# Altium footprint library Voltage_Regulators.PcbLib: 13 footprints
Each footprint in its own frame and in the unit in brackets; x right, y up, seen from the top. Pads: shape width x height; smd on the part's side, far side on the other; paste and mask are expansions set on the pad; w line width, h text height; cw(c..) or ccw(c..) is an arc to the next point about the centre after c.
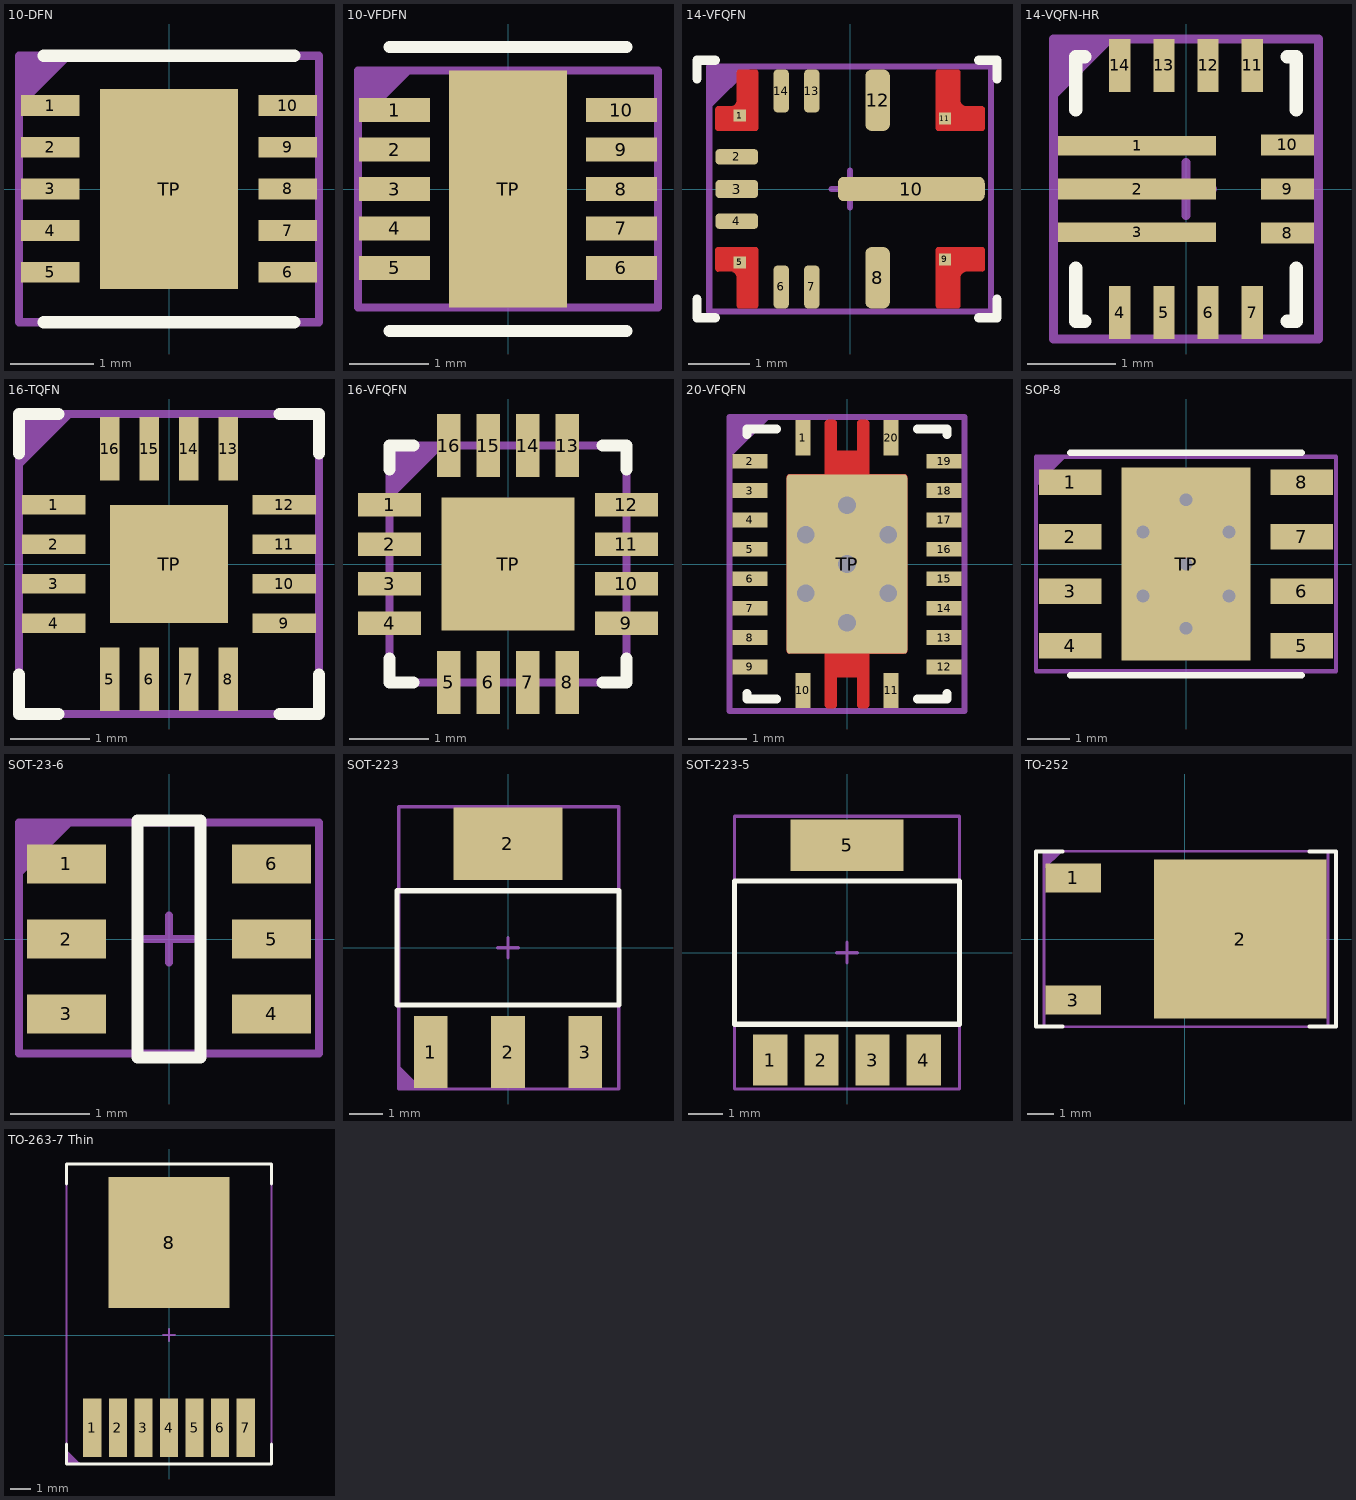
[diagram p0: the footprints below, top view; thin cyan lines are the x and y axes]

## 10-DFN [mm]
pads (11):
  rect 0.7x0.25 smd mask+0.05: 1(-1.425,1) 2(-1.425,0.5) 3(-1.425,0) 4(-1.425,-0.5) 5(-1.425,-1) 6(1.425,-1) 7(1.425,-0.5) 8(1.425,0) 9(1.425,0.5) 10(1.425,1)
  rect 1.65x2.4 smd mask+0.05: TP(0,0)
Top Overlay:
  lines w0.153: -1.5,-1.6 1.5,-1.6 ; -1.5,1.6 1.5,1.6
  text "." at -2.347,0.953 h0.8
Top Assembly:
  region: -1.8,1.6 -1.15,1.6 -1.8,0.95
  lines w0.1: -1.8,-1.6 -1.8,1.6 1.8,1.6 1.8,-1.6 -1.8,-1.6
  text "'.Designator'" at -4.532,-0.333 h0.8
Mechanical 15:
  lines w0.1: -0.3,0 0.3,0 ; 0,-0.3 0,0.3 ; -1.8,-1.6 -1.8,1.6 1.8,1.6 1.8,-1.6 -1.8,-1.6
3D body "DFN10_cdo.step": height 0.8, standoff -0.05, extent -1.56,-1.55 1.56,1.55

## 10-VFDFN [mm]
pads (11):
  rect 0.9x0.3 smd mask+0.05: 1(-1.435,1) 2(-1.435,0.5) 3(-1.435,0) 4(-1.435,-0.5) 5(-1.435,-1) 6(1.435,-1) 7(1.435,-0.5) 8(1.435,0) 9(1.435,0.5) 10(1.435,1)
  rect 1.5x3 smd paste-3 mask+0.05: TP(0,0)
Top Overlay:
  lines w0.153: -1.5,-1.8 1.5,-1.8 ; -1.5,1.8 1.5,1.8
  text "." at -2.261,0.959 h0.8
Top Paste:
  region: 0.33,-0.95 -0.33,-0.95 -0.33,0.95 0.33,0.95
Top Assembly:
  region: -1.9,1.5 -1.2,1.5 -1.9,0.8
  lines w0.1: -1.9,-1.5 1.9,-1.5 1.9,1.5 -1.9,1.5 -1.9,-1.5
  text "'.Designator'" at -4.532,-0.333 h0.8
Mechanical 15:
  lines w0.1: -0.3,0 0.3,0 ; 0,-0.3 0,0.3 ; -1.9,-1.5 1.9,-1.5 1.9,1.5 -1.9,1.5 -1.9,-1.5
3D body "step_temp.STEP": height 1, standoff 0, extent -1.5,-1.5 1.5,1.5

## 14-VFQFN [mm]
pads (14):
  rect 0.2x0.2 smd paste-1 mask+0: 1(-1.8,1.2) 5(-1.8,-1.2) 9(1.55,-1.15) 11(1.55,1.15)
  rrect50% 0.7x0.25 smd mask+0: 2(-1.85,0.525) 4(-1.85,-0.525)
  rrect50% 0.7x0.3 smd mask+0: 3(-1.85,0)
  rrect50% 0.25x0.7 smd mask+0: 6(-1.125,-1.6) 7(-0.625,-1.6) 13(-0.625,1.6) 14(-1.125,1.6)
  rrect50% 0.4x1 smd mask+0: 8(0.45,-1.45) 12(0.45,1.45)
  rrect50% 2.4x0.4 smd paste-2 mask+0: 10(1,0)
Top Layer:
  region: 186 vertices and 0 holes, not listed, extent 1.4,-1.95 2.2,-0.95
  region: 186 vertices and 0 holes, not listed, extent 1.4,0.95 2.2,1.95
  region: 186 vertices and 0 holes, not listed, extent -2.2,-1.95 -1.5,-0.95
  region: 186 vertices and 0 holes, not listed, extent -2.2,0.95 -1.5,1.95
Top Overlay:
  lines w0.153: -2.5,-1.8 -2.5,-2.1 -2.2,-2.1 ; -2.5,1.8 -2.5,2.1 -2.2,2.1 ; 2.1,-2.1 2.4,-2.1 2.4,-1.8 ; 2.1,2.1 2.4,2.1 2.4,1.8
  text "." at -3.047,1.853 h0.8
Top Paste:
  drawing of 6 lines, arcs and shapes, not listed
Top Solder:
  drawing of 14 lines, arcs and shapes, not listed
Top Assembly:
  region: -2.3,2 -1.6,2 -2.3,1.3
  lines w0.1: -2.3,-2 -2.3,2 2.3,2 2.3,-2 -2.3,-2
  text "'.Designator'" at -4.532,-0.333 h0.8
Mechanical 15:
  lines w0.1: -0.3,0 0.3,0 ; 0,-0.3 0,0.3 ; -2.3,-2 -2.3,2 2.3,2 2.3,-2 -2.3,-2
3D body "RJR0014A.stp": height 1, standoff 0, extent -2,-1.75 2,1.75

## 14-VQFN-HR [mm]
pads (14):
  rect 1.79x0.22 smd mask+0.05: 1(-0.555,0.49) 3(-0.555,-0.49)
  rect 1.79x0.24 smd mask+0.05: 2(-0.555,0)
  rect 0.24x0.6 smd mask+0.05: 4(-0.75,-1.4) 5(-0.25,-1.4) 6(0.25,-1.4) 7(0.75,-1.4) 11(0.75,1.4) 12(0.25,1.4) 13(-0.25,1.4) 14(-0.75,1.4)
  rect 0.6x0.24 smd mask+0.05: 8(1.15,-0.5) 9(1.15,0) 10(1.15,0.5)
Top Overlay:
  lines w0.153: -1.25,-0.9 -1.25,-1.5 -1.15,-1.5 ; -1.25,0.9 -1.25,1.5 -1.15,1.5 ; 1.15,-1.5 1.25,-1.5 1.25,-0.9 ; 1.15,1.5 1.25,1.5 1.25,0.9
  text "." at -1.947,0.428 h0.8
Top Assembly:
  region: -1.5,1.7 -0.8,1.7 -1.5,1
  lines w0.1: -1.5,-1.7 1.5,-1.7 1.5,1.7 -1.5,1.7 -1.5,-1.7
  text "'.Designator'" at -4.532,-0.333 h0.8
Mechanical 15:
  lines w0.1: -0.3,0 0.3,0 ; 0,-0.3 0,0.3 ; -1.5,-1.7 1.5,-1.7 1.5,1.7 -1.5,1.7 -1.5,-1.7
3D body "TPS630250RNCT.STEP": height 0.99, standoff -0.01, extent -1.25,-1.5 1.25,1.5

## 16-TQFN [mm]
pads (17):
  rect 0.8x0.25 smd mask+0.05: 1(-1.46,0.75) 2(-1.46,0.25) 3(-1.46,-0.25) 4(-1.46,-0.75) 9(1.46,-0.75) 10(1.46,-0.25) 11(1.46,0.25) 12(1.46,0.75)
  rect 0.25x0.8 smd mask+0.05: 5(-0.75,-1.46) 6(-0.25,-1.46) 7(0.25,-1.46) 8(0.75,-1.46) 13(0.75,1.46) 14(0.25,1.46) 15(-0.25,1.46) 16(-0.75,1.46)
  rect 1.5x1.5 smd paste-0.2 mask+0.05: TP(0,0)
Top Overlay:
  lines w0.153: -1.9,-1.4 -1.9,-1.9 -1.4,-1.9 ; -1.9,1.4 -1.9,1.9 -1.4,1.9 ; 1.4,-1.9 1.9,-1.9 1.9,-1.4 ; 1.4,1.9 1.9,1.9 1.9,1.4
  text "." at -2.347,0.753 h0.8
Top Assembly:
  region: -1.9,1.9 -1.2,1.9 -1.9,1.2
  lines w0.1: -1.9,-1.9 -1.9,1.9 1.9,1.9 1.9,-1.9 -1.9,-1.9
  text "'.Designator'" at -4.532,-0.333 h0.8
Mechanical 15:
  lines w0.1: -0.3,0 0.3,0 ; 0,-0.3 0,0.3 ; -1.9,-1.9 -1.9,1.9 1.9,1.9 1.9,-1.9 -1.9,-1.9
3D body "VQFN16.step": height 0.9, standoff 0, extent -1.75,-1.75 1.75,1.75

## 16-VFQFN [mm]
pads (17):
  rect 0.8x0.3 smd mask+0.05: 1(-1.5,0.75) 2(-1.5,0.25) 3(-1.5,-0.25) 4(-1.5,-0.75) 9(1.5,-0.75) 10(1.5,-0.25) 11(1.5,0.25) 12(1.5,0.75)
  rect 0.3x0.8 smd mask+0.05: 5(-0.75,-1.5) 6(-0.25,-1.5) 7(0.25,-1.5) 8(0.75,-1.5) 13(0.75,1.5) 14(0.25,1.5) 15(-0.25,1.5) 16(-0.75,1.5)
  rect 1.68x1.68 smd mask+0.05: TP(0,0)
Top Overlay:
  lines w0.153: -1.5,-1.2 -1.5,-1.5 -1.2,-1.5 ; -1.5,1.2 -1.5,1.5 -1.2,1.5 ; 1.2,-1.5 1.5,-1.5 1.5,-1.2 ; 1.2,1.5 1.5,1.5 1.5,1.2
  text "." at -1.972,1.303 h0.8
Top Assembly:
  region: -1.5,1.5 -0.8,1.5 -1.5,0.8
  lines w0.1: -1.5,-1.5 -1.5,1.5 1.5,1.5 1.5,-1.5 -1.5,-1.5
  text "'.Designator'" at -4.532,-0.333 h0.8
Mechanical 15:
  lines w0.1: -0.3,0 0.3,0 ; 0,-0.3 0,0.3 ; -1.5,-1.5 1.5,-1.5 1.5,1.5 -1.5,1.5 -1.5,-1.5
3D body "TPS62097QWRGTRQ1.STEP": height 1, standoff 0, extent -1.5,-1.5 1.5,1.5

## 20-VFQFN [mm]
pads (21):
  rect 0.25x0.6 smd mask+0.05: 1(-0.75,2.15) 10(-0.75,-2.15) 11(0.75,-2.15) 20(0.75,2.15)
  rect 0.6x0.25 smd mask+0.05: 2(-1.65,1.75) 3(-1.65,1.25) 4(-1.65,0.75) 5(-1.65,0.25) 6(-1.65,-0.25) 7(-1.65,-0.75) 8(-1.65,-1.25) 9(-1.65,-1.75) 12(1.65,-1.75) 13(1.65,-1.25) 14(1.65,-0.75) 15(1.65,-0.25) 16(1.65,0.25) 17(1.65,0.75) 18(1.65,1.25) 19(1.65,1.75)
  rrect5% 2.05x3.05 smd paste-3: TP(0,0)
via 0.7,0.5 diameter 0.6 hole 0.3
via -0.7,0.5 diameter 0.6 hole 0.3
via 0.7,-0.5 diameter 0.6 hole 0.3
via -0.7,-0.5 diameter 0.6 hole 0.3
via 0,-1 diameter 0.6 hole 0.3
via 0,1 diameter 0.6 hole 0.3
via 0,0 diameter 0.6 hole 0.3
Top Layer:
  region: 380 vertices and 0 holes, not listed, extent -1.025,-2.45 1.025,2.45
Top Overlay:
  lines w0.153: -1.7,-2.2 -1.7,-2.3 -1.2,-2.3 ; -1.7,2.2 -1.7,2.3 -1.2,2.3 ; 1.2,-2.3 1.7,-2.3 1.7,-2.2 ; 1.2,2.3 1.7,2.3 1.7,2.2
  text "." at -0.847,2.753 h0.8
Top Paste:
  drawing of 8 lines, arcs and shapes, not listed
Top Solder:
  drawing of 1 lines, arcs and shapes, not listed
Top Assembly:
  region: -2,2.5 -1.3,2.5 -2,1.8
  lines w0.1: -2,-2.5 -2,2.5 2,2.5 2,-2.5 -2,-2.5
  text "'.Designator'" at -4.532,-0.333 h0.8
Mechanical 15:
  lines w0.1: -0.3,0 0.3,0 ; 0,-0.3 0,0.3 ; -2,-2.5 2,-2.5 2,2.5 -2,2.5 -2,-2.5
3D body "TPS61088RHLR.STEP": height 1, standoff 0, extent -1.75,-2.25 1.75,2.25

## SOP-8 [mm]
height 1.35
pads (9):
  rect 1.45x0.6 smd: 1(-2.7,1.905) 2(-2.7,0.635) 3(-2.7,-0.635) 4(-2.7,-1.905) 5(2.7,-1.905) 6(2.7,-0.635) 7(2.7,0.635) 8(2.7,1.905)
  rect 3x4.5 smd: TP(0,0)
via 0,0 diameter 0.6 hole 0.3
via -1,-0.75 diameter 0.6 hole 0.3
via 1,-0.75 diameter 0.6 hole 0.3
via -1,0.75 diameter 0.6 hole 0.3
via 1,0.75 diameter 0.6 hole 0.3
via 0,1.5 diameter 0.6 hole 0.3
via 0,-1.5 diameter 0.6 hole 0.3
Top Overlay:
  lines w0.153: -2.7,-2.6 2.7,-2.6 ; -2.7,2.6 2.7,2.6
  text "." at -4.147,1.753 h0.8
Top Assembly:
  region: -3.5,2.5 -2.8,2.5 -3.5,1.8
  lines w0.1: -3.5,-2.5 -3.5,2.5 3.5,2.5 3.5,-2.5 -3.5,-2.5
  text "'.Designator'" at -4.532,-0.333 h0.8
Mechanical 15:
  lines w0.1: -0.3,0 0.3,0 ; 0,-0.3 0,0.3 ; -3.5,-2.5 -3.5,2.5 3.5,2.5 3.5,-2.5 -3.5,-2.5
3D body "TSOP127P600X135_HS-9N.step": height 1.35, standoff 0, extent -3,-2.5 3,2.5

## SOT-23-6 [mm]
height 1.45
pads (6):
  rect 1x0.5 smd: 1(-1.3,0.95) 2(-1.3,0) 3(-1.3,-0.95) 4(1.3,-0.95) 5(1.3,0) 6(1.3,0.95)
Top Overlay:
  lines w0.153: -0.4,-1.5 0.4,-1.5 0.4,1.5 -0.4,1.5 -0.4,-1.5
  text "." at -2.347,0.853 h0.8
Top Assembly:
  region: -1.9,1.475 -1.2,1.475 -1.9,0.775
  lines w0.1: -1.9,-1.45 -1.9,1.475 1.9,1.475 1.9,-1.45 -1.9,-1.45
  text "'.Designator'" at -4.532,-0.333 h0.8
Mechanical 15:
  lines w0.1: -0.3,0 0.3,0 ; 0,-0.3 0,0.3 ; -1.9,-1.45 -1.9,1.475 1.9,1.475 1.9,-1.45 -1.9,-1.45
3D body "User Library-SOT23-6-4.STEP": height 1.1, standoff 0, extent -1.24,-1.441 1.16,1.459

## SOT-223 [mm]
pads (4):
  rect 1x2.15 smd: 1(-2.3,-3.1) 2(0,-3.1) 3(2.3,-3.1)
  rect 3.25x2.15 smd: 2(0,3.1)
Top Overlay:
  lines w0.153: -3.3,-1.7 3.3,-1.7 3.3,1.7 -3.3,1.7 -3.3,-1.7
  text "." at -3.647,-3.147 h0.8
Top Assembly:
  region: -3.25,-4.2 -3.25,-3.5 -2.55,-4.2
  lines w0.1: -3.25,-4.2 -3.25,4.2 3.3,4.2 3.3,-4.2 -3.25,-4.2
  text "'.Designator'" at -4.532,-0.333 h0.8
Mechanical 15:
  lines w0.1: -0.3,0 0.3,0 ; 0,-0.3 0,0.3 ; -3.25,-4.2 -3.25,4.2 3.3,4.2 3.3,-4.2 -3.25,-4.2
3D body "CircuitWorks-SOT-223.STEP": height 1.6, standoff -0.08, extent -3.25,-3.48 3.25,3.48

## SOT-223-5 [mm]
pads (5):
  rect 1x1.5 smd: 1(-2.25,-3.15) 2(-0.75,-3.15) 3(0.75,-3.15) 4(2.25,-3.15)
  rect 3.3x1.5 smd: 5(0,3.15)
Top Overlay:
  lines w0.153: -3.3,-2.1 -3.3,2.1 3.3,2.1 3.3,-2.1 -3.3,-2.1
  text "." at -3.847,-3.147 h0.8
Top Assembly:
  lines w0.1: -3.3,-4 -3.3,4 3.3,4 3.3,-4 -3.3,-4
  text "'.Designator'" at -4.532,-0.333 h0.8
Mechanical 15:
  lines w0.1: -0.3,0 0.3,0 ; 0,-0.3 0,0.3 ; -3.3,-4 3.3,-4 3.3,4 -3.3,4 -3.3,-4
3D body "SOT223-5.step": height 1.7, standoff 0, extent -3.25,-3.48 3.25,3.48

## TO-252 [mm]
pads (3):
  rect 2.1x1.1 smd: 1(-4.2,2.3) 3(-4.2,-2.3)
  rect 6.5x6 smd: 2(2.1,0)
Top Overlay:
  lines w0.153: -4.6,-3.3 -5.6,-3.3 -5.6,3.3 -4.6,3.3 ; 4.7,-3.3 5.7,-3.3 5.7,3.3 4.7,3.3
  text "." at -6.247,3.153 h0.8
Top Assembly:
  region: -5.3,3.3 -4.6,3.3 -5.3,2.6
  lines w0.1: -5.3,-3.3 5.4,-3.3 5.4,3.3 -5.3,3.3 -5.3,-3.3
  text "'.Designator'" at -4.532,-0.333 h0.8
Mechanical 15:
  lines w0.1: -0.3,0 0.3,0 ; 0,-0.3 0,0.3 ; -5.3,-3.3 -5.3,3.3 5.4,3.3 5.4,-3.3 -5.3,-3.3
3D body "TO-252.step": height 2.3, standoff 0, extent -4.848,-3.29 4.852,3.29

## TO-263-7 Thin [mm]
pads (8):
  rect 0.9x2.9 smd mask+0.05: 1(-3.81,-4.6) 2(-2.54,-4.6) 3(-1.27,-4.6) 4(0,-4.6) 5(1.27,-4.6) 6(2.54,-4.6) 7(3.81,-4.6)
  rect 6x6.5 smd paste-4: 8(0,4.6)
Top Overlay:
  lines w0.153: -5.1,-5.4 -5.1,-6.4 5.1,-6.4 5.1,-5.4 ; -5.1,7.5 -5.1,8.5 5.1,8.5 5.1,7.5
  text "." at -5.647,-4.647 h0.8
Top Paste:
  region: 2.17,1.55 0.632,1.55 0.632,3.48 2.17,3.48
  region: 2.17,5.804 0.632,5.804 0.632,7.72 2.17,7.72
  region: 2.17,3.678 0.632,3.678 0.632,5.6 2.17,5.6
  region: -0.63,1.55 -2.176,1.55 -2.176,3.48 -0.63,3.48
  region: -0.63,5.805 -2.177,5.805 -2.177,7.72 -0.63,7.72
  region: -0.63,3.675 -2.175,3.675 -2.175,5.6 -0.63,5.6
Top Assembly:
  region: -5.1,-6.4 -5.1,-5.7 -4.4,-6.4
  lines w0.1: -5.1,-6.4 -5.1,8.5 5.1,8.5 5.1,-6.4 -5.1,-6.4
  text "'.Designator'" at -4.532,-0.333 h0.8
Mechanical 15:
  lines w0.1: -0.3,0 0.3,0 ; 0,-0.3 0,0.3 ; -5.1,-6.4 5.1,-6.4 5.1,8.5 -5.1,8.5 -5.1,-6.4
3D body "NDR0007A.stp": height 2.15, standoff -0.02, extent -5.08,-5.531 5.08,8.48